# Altium integrated library CR2032 Library.IntLib: 1 symbol
Pins are listed as number, name and electrical type; pins without a type are passive.

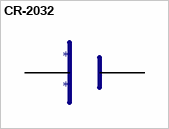
[diagram p0: symbol CR-2032]

## CR-2032
designator *
footprint CR-2032 (CR-2032 Holder)
pins: 1 (power), 2 (power)